# EAGLE library part DPDT-SWITCH (library jason-test)
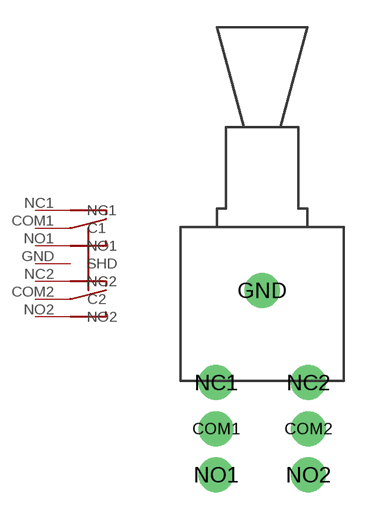
[diagram p33: symbol with the pads of TL4XWW-SWITCH; footprint TL4XWW-SWITCH]

Designator prefix -

## DPDT-SWITCHTL4XWW  [TL4XWW-SWITCH]
COM1  C1
COM2  C2
GND  SHD  pwr
NC1  NC1
NC2  NC2
NO1  NO1
NO2  NO2

## Footprint TL4XWW-SWITCH (pad centres in mm)
drill 1.1 pad 1.93 round: COM1 -2.54,-7.62; COM2 2.54,-7.62; GND 0,0; NC1 -2.54,-5.08; NC2 2.54,-5.08; NO1 -2.54,-10.16; NO2 2.54,-10.16